# EAGLE library part MOLEX_89485-8000 (library DUMMY)
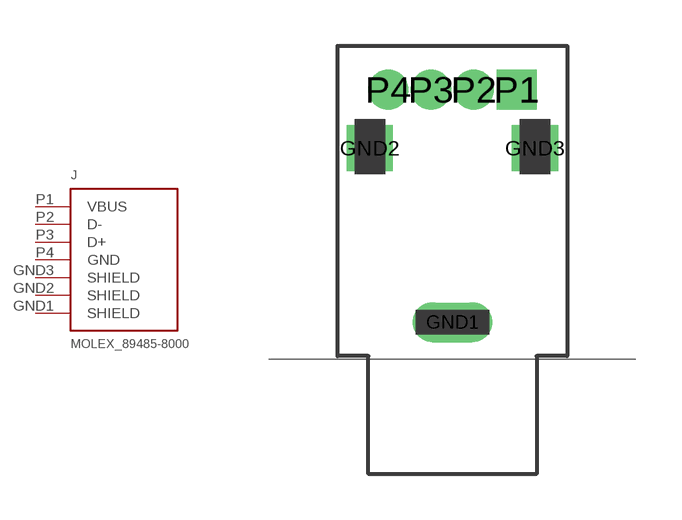
[diagram p7: symbol with the pads of MOLEX_UP-RIGHT_USB; footprint MOLEX_UP-RIGHT_USB]

Designator prefix J

## MOLEX_89485-8000  [MOLEX_UP-RIGHT_USB]
GND1  SHIELD
GND2  SHIELD
GND3  SHIELD
P1  VBUS
P2  D-
P3  D+
P4  GND

## Footprint MOLEX_UP-RIGHT_USB (pad centres in mm)
drill 0.8 long: GND1 0,0
drill 1 square: GND2 -2.7,5.7; GND3 2.7,5.7
drill 0.8 square: P1 2.1,7.62
drill 0.8 round: P2 0.7,7.62; P3 -0.7,7.62; P4 -2.1,7.62